# EAGLE library part RR_6X_B (library #PaJa_31)
Odporova sit - 6x
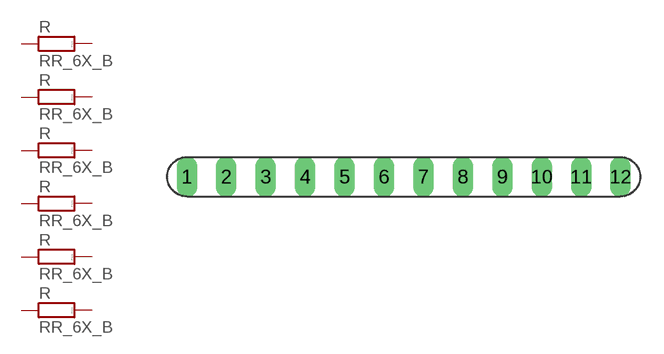
[diagram p28: symbol with the pads of RR_6X_B; footprint RR_6X_B]

Designator prefix R; gates R1=RR R2=RR R3=RR R4=RR R5=RR R6=RR

## RR_6X_B  [RR_6X_B]
1  R1:1  pas
2  R1:2  pas
3  R2:1  pas
4  R2:2  pas
5  R3:1  pas
6  R3:2  pas
7  R4:1  pas
8  R4:2  pas
9  R5:1  pas
10  R5:2  pas
11  R6:1  pas
12  R6:2  pas

## Footprint RR_6X_B (pad centres in mm)
drill 0.813 pad 1.27 long: 1 -13.97,0; 2 -11.43,0; 3 -8.89,0; 4 -6.35,0; 5 -3.81,0; 6 -1.27,0; 7 1.27,0; 8 3.81,0; 9 6.35,0; 10 8.89,0; 11 11.43,0; 12 13.97,0